# Altium integrated library Linear Technology Power Management Supercapacitor Chargers.IntLib: 96 symbols (part 3 of 8)
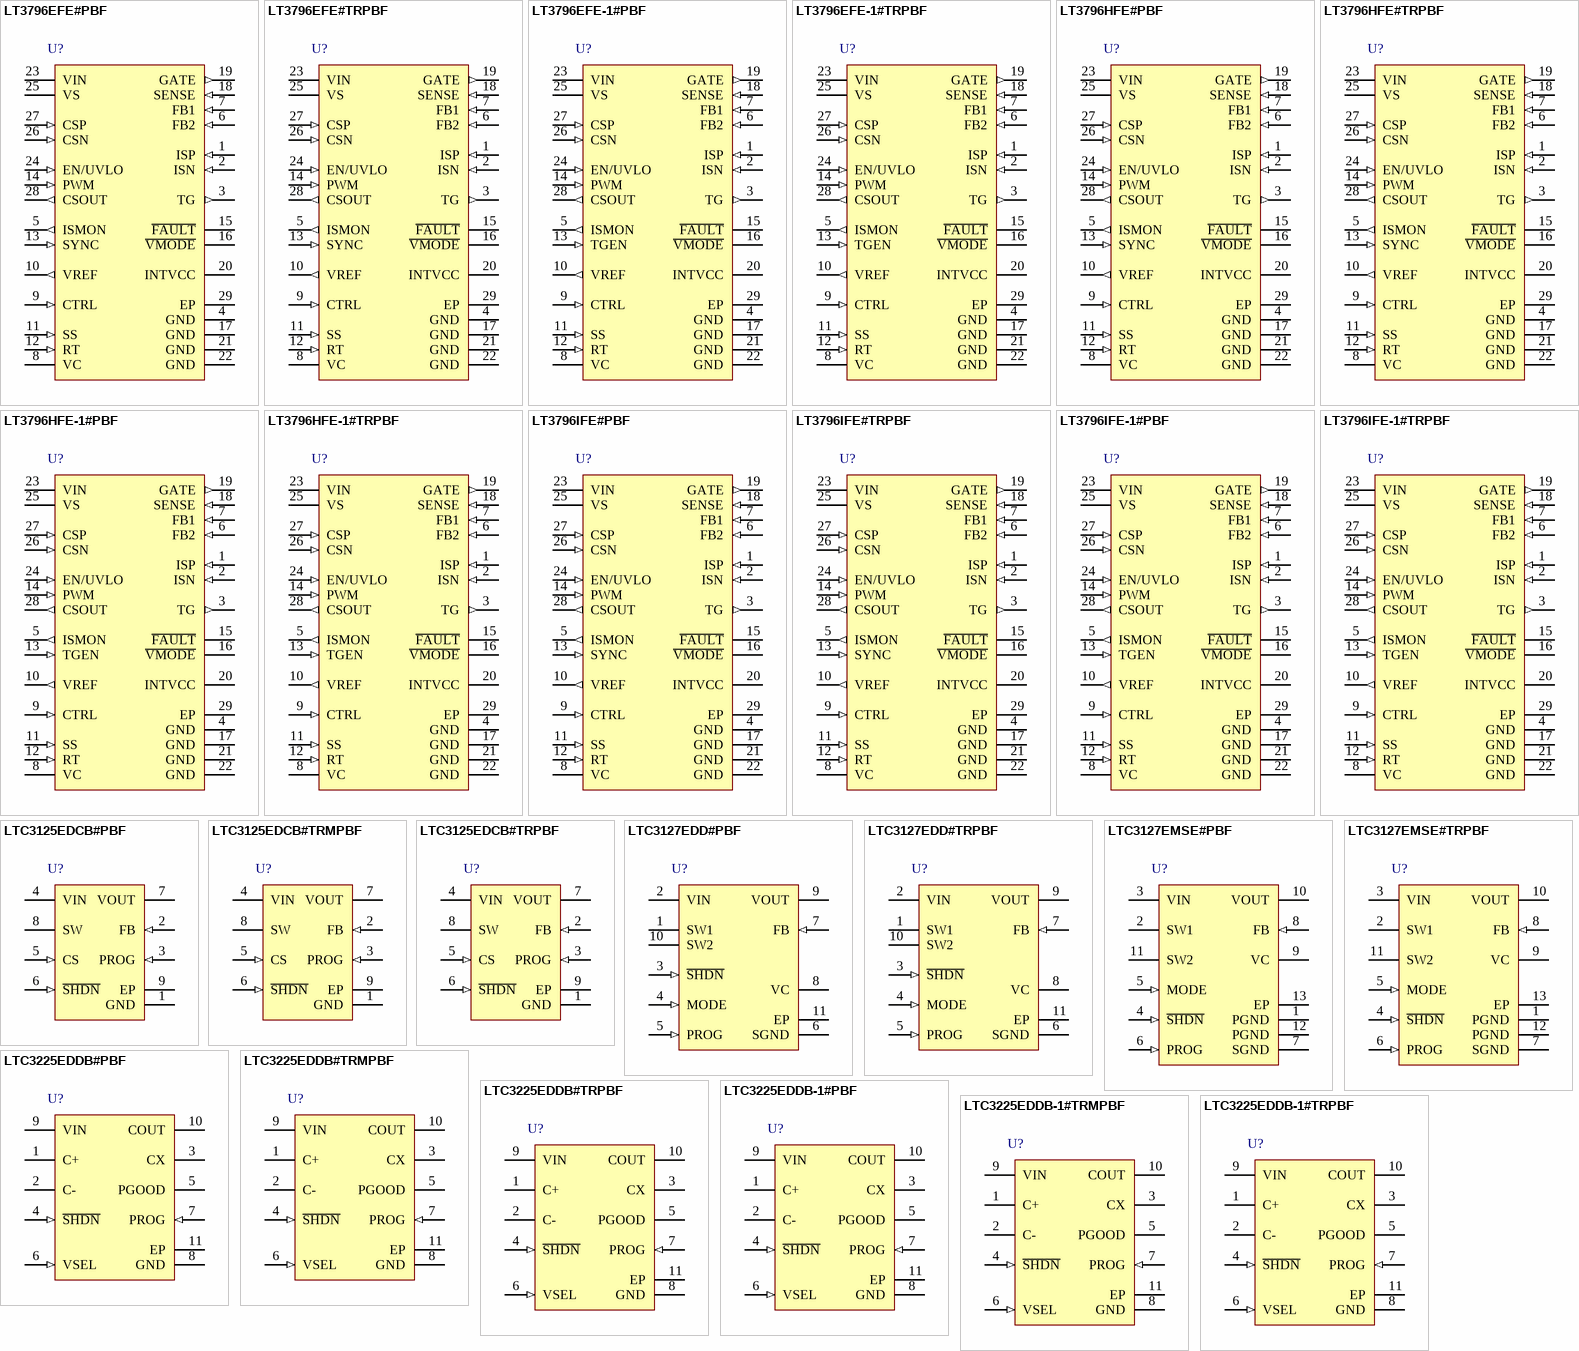
[diagram p5: symbols LT3796EFE#PBF to LTC3225EDDB-1#TRPBF]

## LT3796EFE#PBF
designator U?
Constant-Current and Constant-Voltage Controller with Dual Current Sense, 6 to 100 V Vin, 100 V Vout MAX, 28-pin SOP (FE-28-EPV-EB), -40 to 125 degC, Pb-Free; Manufacturer: Linear Technology; PartNumber: LT3796EFE#PBF; Output Current(A): 10; Topology: Buck, Boost, Buck-Boost, Sepic; DatasheetVersion: Rev. A; PackageVersion: Rev. J, 11/2012; PackageReference: FE-28; PackageDescription: 28-Pin Plastic TSSOP, Body 9.7 x 4.4 mm, Pitch 0.65 mm; Supplier 1: Digi-Key; Supplier Part Number 1: LT3796EFE#PBF-ND; Supplier 2: Farnell; Supplier Part Number 2: 2115922; Supplier 3: Newark; Supplier Part Number 3: 93T2031; RoHS: TRUE; Mounting Technology: Surface Mount; ComponentLink1Description: Manufacturer URL; ComponentLink1URL: http://www.linear.com/; ComponentLink2Description: Datasheet; ComponentLink2URL: http://cds.linear.com/docs/en/datasheet/3796fa.pdf; ComponentLink3Description: Package Specification; ComponentLink3URL: http://cds.linear.com/docs/en/packaging/05081663__J_FE28(EB).pdf
footprint LT-FE-28-EPV-EB_N (SOP, 28-Leads, Body 9.8x4.5mm, Pitch 0.65mm, Thermal Pad 4.75x2.74mm, IPC Medium Density)
footprint LT-FE-28-EPV-EB_L (SOP, 28-Leads, Body 9.8x4.5mm, Pitch 0.65mm, Thermal Pad 4.75x2.74mm, IPC High Density)
footprint LT-FE-28-EPV-EB_M (SOP, 28-Leads, Body 9.8x4.5mm, Pitch 0.65mm, Thermal Pad 4.75x2.74mm, IPC Low Density)
pins: 1 ISP (in) "Connection Point for the Positive Terminal of the Current Feedback Resistor (RLED ). Also serves as positive rail for TG pin driver.", 2 ISN (in) "Connection Point for the Negative Terminal of the Current Feedback Resistor (RLED ).", 3 TG (out) "Top Gate Driver Output. An inverted PWM signal drives series PMOS device between VISP and (VISP - 7 V) if V ISP > 7 V. An internal 7 V clamp protects the PMOS gate by limiting VGS. Leave TG unconnected if not used.", 4 GND (power) "Ground. These pins also serve as current sense input for control loop, sensing negative terminal of current sense resistor in the source of the N-channel MOSFET. Solder the exposed pad directly to ground plane.", 5 ISMON (out) "ISP / ISN Current Report Pin. The LED current sensed by ISP / ISN inputs is reported as VISMON = ILED • RLED • 4. Leave ISMON pin unconnected if not used. When PWM is low, ISMON is driven to ground. Bypass with a 47(See Datasheet)", 6 FB2 (in) "Voltage Loop Feedback 2 Pin. This pin is connected to the internal transconductance amplifier positive input node. The internal transconductance amplifier with output VC regulates FB2 to 1.25 V through the DC/ DC converter. (See Datasheet)", 7 FB1 (in) "Voltage Loop Feedback 1 Pin. FB1 is intended for constant-voltage regulation or for LED protection / open LED detection.", 8 VC "Transconductance Error Amplifier Output Pin. Used to stabilize the control loop with an RC network. This pin is high impedance when PWM is low, a feature that stores the demand current state variable for the next PWM high (See Datasheet)", 9 CTRL (in) "Current Sense Threshold Adjustment Pin.", 10 VREF (out) "Voltage Reference Output Pin. Typically 2.015 V. This pin drives a resistor divider for the CTRL pin, either for analog dimming or for temperature limit / compensation of LED load. It can supply up to 100 uA.", 11 SS (in) "Soft-Start Pin. This pin modulates oscillator frequency and compensation pin voltage (VC ) clamp. The soft-start interval is set with an external capacitor.", 12 RT (in) "Switching Frequency Adjustment Pin. Set the frequency using a resistor to GND (for resistor values, see the Typical Performance curve or Table 2). Do not leave the RT pin open.", 13 SYNC (in) "The SYNC pin is used to syn- chronize the internal oscillator to an external logic level signal. If SYNC is used, the RT resistor should be chosen to program an internal switching frequency 20% slower than the SYNC pulse (See Datasheet)", 14 PWM (in) "PWM Input Signal Pin. A signal low turns off switching, idles the oscillator, disconnects the VC pin from all internal loads, and makes the TG pin high. There is an equivalent 500 k resistor from PWM pin to GND internally. (See Datasheet)", 15 ~{FAULT} (oc) "An open-collector pull-down on F\A\U\L\T\ asserts when any of the following conditions happen: 1. FB1 overvoltage (V FB1 > 1.3 V), 2. INTV CC undervoltage, 3. LED overcurrent (V(ISP-ISN) > 375 mV), or 4. Thermal shutdown. If (See Datasheet)", 16 ~{VMODE} (oc) "An open-collector pull-down on V\M\O\D\E\ asserts if the FB1 input is above 1.19 V (typical), and V(ISP-ISN) is less than 25 mV (typical). To function, the pin requires an external pull-up resistor. V\M\O\D\E\ status is (See Datasheet)", 17 GND (power) "Ground. These pins also serve as current sense input for control loop, sensing negative terminal of current sense resistor in the source of the N-channel MOSFET. Solder the exposed pad directly to ground plane.", 18 SENSE (in) "The current sense input for the control loop. Kelvin connect this pin to the positive terminal of the switch current sense resistor, RSENSE , in the source of the N-channel MOSFET. The negative terminal of the current sense (See Datasheet)", 19 GATE (out) "N-Channel MOSFET Gate Driver Output. Switches between INTVCC and GND. It is driven to GND during shutdown, fault or idle states.", 20 INTVCC (power) "Regulated Supply for Internal Loads, GATE Driver and Top Gate (PMOS) Driver. Supplied from VIN and regulates to 7.7 V (typical). INTVCC must be bypassed with a 4.7 uF capacitor placed close to the pin. Connect INTV CC (See Datasheet)", 21 GND (power) "Ground. These pins also serve as current sense input for control loop, sensing negative terminal of current sense resistor in the source of the N-channel MOSFET. Solder the exposed pad directly to ground plane.", 22 GND (power) "Ground. These pins also serve as current sense input for control loop, sensing negative terminal of current sense resistor in the source of the N-channel MOSFET. Solder the exposed pad directly to ground plane.", 23 VIN (power) "Input Supply Pin. Must be locally bypassed with a 0.22 uF (or larger) capacitor placed close to the IC.", 24 EN/UVLO (in) "Enable and Undervoltage Lockout Pin.", 25 VS (power) "Current Sense Amplifier Power Supply Pin. This pin supply current to the current sense amplifier and can operate from 3 V to 100 V.", 26 CSN (in) "Negative Current Sense Input Terminal. CSN remains functional for voltages up to 100 V.", 27 CSP (in) "Positive Current Sense Input Terminal. The internal sense amplifier sinks current from CSP to regulate it to the same potential as CSN. A resistor (RIN1 ) tied from VIN to CSP sets the output current ICSOUT = VSNS /R IN1 .", 28 CSOUT (out) "Current Sense Amplifier Output. CSOUT pin sources the current that is drawn from CSP. Typically is output to an external resistor to GND.", 29 EP (power) "Ground. These pins also serve as current sense input for control loop, sensing negative terminal of current sense resistor in the source of the N-channel MOSFET. Solder the exposed pad directly to ground plane."

## LT3796EFE#TRPBF
designator U?
Constant-Current and Constant-Voltage Controller with Dual Current Sense, 6 to 100 V Vin, 100 V Vout MAX, 28-pin SOP (FE-28-EPV-EB), -40 to 125 degC, Pb-Free, Tape and Reel; Manufacturer: Linear Technology; PartNumber: LT3796EFE#TRPBF; Output Current(A): 10; Topology: Buck, Boost, Buck-Boost, Sepic; DatasheetVersion: Rev. A; PackageVersion: Rev. J, 11/2012; PackageReference: FE-28; PackageDescription: 28-Pin Plastic TSSOP, Body 9.7 x 4.4 mm, Pitch 0.65 mm; Supplier 1: Digi-Key; Supplier Part Number 1: LT3796EFE#TRPBF-ND; Supplier 2: Newark; Supplier Part Number 2: 93T2032; Packing: Tape and Reel; RoHS: TRUE; Mounting Technology: Surface Mount; ComponentLink1Description: Manufacturer URL; ComponentLink1URL: http://www.linear.com/; ComponentLink2Description: Datasheet; ComponentLink2URL: http://cds.linear.com/docs/en/datasheet/3796fa.pdf; ComponentLink3Description: Package Specification; ComponentLink3URL: http://cds.linear.com/docs/en/packaging/05081663__J_FE28(EB).pdf
footprint LT-FE-28-EPV-EB_N (SOP, 28-Leads, Body 9.8x4.5mm, Pitch 0.65mm, Thermal Pad 4.75x2.74mm, IPC Medium Density)
footprint LT-FE-28-EPV-EB_L (SOP, 28-Leads, Body 9.8x4.5mm, Pitch 0.65mm, Thermal Pad 4.75x2.74mm, IPC High Density)
footprint LT-FE-28-EPV-EB_M (SOP, 28-Leads, Body 9.8x4.5mm, Pitch 0.65mm, Thermal Pad 4.75x2.74mm, IPC Low Density)
pins: 1 ISP (in) "Connection Point for the Positive Terminal of the Current Feedback Resistor (RLED ). Also serves as positive rail for TG pin driver.", 2 ISN (in) "Connection Point for the Negative Terminal of the Current Feedback Resistor (RLED ).", 3 TG (out) "Top Gate Driver Output. An inverted PWM signal drives series PMOS device between VISP and (VISP - 7 V) if V ISP > 7 V. An internal 7 V clamp protects the PMOS gate by limiting VGS. Leave TG unconnected if not used.", 4 GND (power) "Ground. These pins also serve as current sense input for control loop, sensing negative terminal of current sense resistor in the source of the N-channel MOSFET. Solder the exposed pad directly to ground plane.", 5 ISMON (out) "ISP / ISN Current Report Pin. The LED current sensed by ISP / ISN inputs is reported as VISMON = ILED • RLED • 4. Leave ISMON pin unconnected if not used. When PWM is low, ISMON is driven to ground. Bypass with a 47(See Datasheet)", 6 FB2 (in) "Voltage Loop Feedback 2 Pin. This pin is connected to the internal transconductance amplifier positive input node. The internal transconductance amplifier with output VC regulates FB2 to 1.25 V through the DC/ DC converter. (See Datasheet)", 7 FB1 (in) "Voltage Loop Feedback 1 Pin. FB1 is intended for constant-voltage regulation or for LED protection / open LED detection.", 8 VC "Transconductance Error Amplifier Output Pin. Used to stabilize the control loop with an RC network. This pin is high impedance when PWM is low, a feature that stores the demand current state variable for the next PWM high (See Datasheet)", 9 CTRL (in) "Current Sense Threshold Adjustment Pin.", 10 VREF (out) "Voltage Reference Output Pin. Typically 2.015 V. This pin drives a resistor divider for the CTRL pin, either for analog dimming or for temperature limit / compensation of LED load. It can supply up to 100 uA.", 11 SS (in) "Soft-Start Pin. This pin modulates oscillator frequency and compensation pin voltage (VC ) clamp. The soft-start interval is set with an external capacitor.", 12 RT (in) "Switching Frequency Adjustment Pin. Set the frequency using a resistor to GND (for resistor values, see the Typical Performance curve or Table 2). Do not leave the RT pin open.", 13 SYNC (in) "The SYNC pin is used to syn- chronize the internal oscillator to an external logic level signal. If SYNC is used, the RT resistor should be chosen to program an internal switching frequency 20% slower than the SYNC pulse (See Datasheet)", 14 PWM (in) "PWM Input Signal Pin. A signal low turns off switching, idles the oscillator, disconnects the VC pin from all internal loads, and makes the TG pin high. There is an equivalent 500 k resistor from PWM pin to GND internally. (See Datasheet)", 15 ~{FAULT} (oc) "An open-collector pull-down on F\A\U\L\T\ asserts when any of the following conditions happen: 1. FB1 overvoltage (V FB1 > 1.3 V), 2. INTV CC undervoltage, 3. LED overcurrent (V(ISP-ISN) > 375 mV), or 4. Thermal shutdown. If (See Datasheet)", 16 ~{VMODE} (oc) "An open-collector pull-down on V\M\O\D\E\ asserts if the FB1 input is above 1.19 V (typical), and V(ISP-ISN) is less than 25 mV (typical). To function, the pin requires an external pull-up resistor. V\M\O\D\E\ status is (See Datasheet)", 17 GND (power) "Ground. These pins also serve as current sense input for control loop, sensing negative terminal of current sense resistor in the source of the N-channel MOSFET. Solder the exposed pad directly to ground plane.", 18 SENSE (in) "The current sense input for the control loop. Kelvin connect this pin to the positive terminal of the switch current sense resistor, RSENSE , in the source of the N-channel MOSFET. The negative terminal of the current sense (See Datasheet)", 19 GATE (out) "N-Channel MOSFET Gate Driver Output. Switches between INTVCC and GND. It is driven to GND during shutdown, fault or idle states.", 20 INTVCC (power) "Regulated Supply for Internal Loads, GATE Driver and Top Gate (PMOS) Driver. Supplied from VIN and regulates to 7.7 V (typical). INTVCC must be bypassed with a 4.7 uF capacitor placed close to the pin. Connect INTV CC (See Datasheet)", 21 GND (power) "Ground. These pins also serve as current sense input for control loop, sensing negative terminal of current sense resistor in the source of the N-channel MOSFET. Solder the exposed pad directly to ground plane.", 22 GND (power) "Ground. These pins also serve as current sense input for control loop, sensing negative terminal of current sense resistor in the source of the N-channel MOSFET. Solder the exposed pad directly to ground plane.", 23 VIN (power) "Input Supply Pin. Must be locally bypassed with a 0.22 uF (or larger) capacitor placed close to the IC.", 24 EN/UVLO (in) "Enable and Undervoltage Lockout Pin.", 25 VS (power) "Current Sense Amplifier Power Supply Pin. This pin supply current to the current sense amplifier and can operate from 3 V to 100 V.", 26 CSN (in) "Negative Current Sense Input Terminal. CSN remains functional for voltages up to 100 V.", 27 CSP (in) "Positive Current Sense Input Terminal. The internal sense amplifier sinks current from CSP to regulate it to the same potential as CSN. A resistor (RIN1 ) tied from VIN to CSP sets the output current ICSOUT = VSNS /R IN1 .", 28 CSOUT (out) "Current Sense Amplifier Output. CSOUT pin sources the current that is drawn from CSP. Typically is output to an external resistor to GND.", 29 EP (power) "Ground. These pins also serve as current sense input for control loop, sensing negative terminal of current sense resistor in the source of the N-channel MOSFET. Solder the exposed pad directly to ground plane."

## LT3796EFE-1#PBF
designator U?
Constant-Current and Constant-Voltage Controller with Dual Current Sense, 6 to 100 V Vin, 100 V Vout MAX, 28-pin SOP (FE-28-EPV-EB), -40 to 125 degC, Pb-Free; Manufacturer: Linear Technology; PartNumber: LT3796EFE-1#PBF; Output Current(A): 10; Topology: Buck, Boost, Buck-Boost, Sepic; DatasheetVersion: Rev. A; PackageVersion: Rev. J, 11/2012; PackageReference: FE-28; PackageDescription: 28-Pin Plastic TSSOP, Body 9.7 x 4.4 mm, Pitch 0.65 mm; Supplier 1: Digi-Key; Supplier Part Number 1: LT3796EFE-1#PBF-ND; Supplier 2: Newark; Supplier Part Number 2: 48W6517; RoHS: TRUE; Mounting Technology: Surface Mount; ComponentLink1Description: Manufacturer URL; ComponentLink1URL: http://www.linear.com/; ComponentLink2Description: Datasheet; ComponentLink2URL: http://cds.linear.com/docs/en/datasheet/3796fa.pdf; ComponentLink3Description: Package Specification; ComponentLink3URL: http://cds.linear.com/docs/en/packaging/05081663__J_FE28(EB).pdf
footprint LT-FE-28-EPV-EB_N (SOP, 28-Leads, Body 9.8x4.5mm, Pitch 0.65mm, Thermal Pad 4.75x2.74mm, IPC Medium Density)
footprint LT-FE-28-EPV-EB_L (SOP, 28-Leads, Body 9.8x4.5mm, Pitch 0.65mm, Thermal Pad 4.75x2.74mm, IPC High Density)
footprint LT-FE-28-EPV-EB_M (SOP, 28-Leads, Body 9.8x4.5mm, Pitch 0.65mm, Thermal Pad 4.75x2.74mm, IPC Low Density)
pins: 1 ISP (in) "Connection Point for the Positive Terminal of the Current Feedback Resistor (RLED ). Also serves as positive rail for TG pin driver.", 2 ISN (in) "Connection Point for the Negative Terminal of the Current Feedback Resistor (RLED ).", 3 TG (out) "Top Gate Driver Output. An inverted PWM signal drives series PMOS device between VISP and (VISP - 7 V) if V ISP > 7 V. An internal 7 V clamp protects the PMOS gate by limiting VGS. Leave TG unconnected if not used.", 4 GND (power) "Ground. These pins also serve as current sense input for control loop, sensing negative terminal of current sense resistor in the source of the N-channel MOSFET. Solder the exposed pad directly to ground plane.", 5 ISMON (out) "ISP / ISN Current Report Pin. The LED current sensed by ISP / ISN inputs is reported as VISMON = ILED ?RLED ?4. Leave ISMON pin unconnected if not used. When PWM is low, ISMON is driven to ground. Bypass with a 47(See Datasheet)", 6 FB2 (in) "Voltage Loop Feedback 2 Pin. This pin is connected to the internal transconductance amplifier positive input node. The internal transconductance amplifier with output VC regulates FB2 to 1.25 V through the DC/ DC converter. (See Datasheet)", 7 FB1 (in) "Voltage Loop Feedback 1 Pin. FB1 is intended for constant-voltage regulation or for LED protection / open LED detection.", 8 VC "Transconductance Error Amplifier Output Pin. Used to stabilize the control loop with an RC network. This pin is high impedance when PWM is low, a feature that stores the demand current state variable for the next PWM high (See Datasheet)", 9 CTRL (in) "Current Sense Threshold Adjustment Pin.", 10 VREF (out) "Voltage Reference Output Pin. Typically 2.015 V. This pin drives a resistor divider for the CTRL pin, either for analog dimming or for temperature limit / compensation of LED load. It can supply up to 100 uA.", 11 SS (in) "Soft-Start Pin. This pin modulates oscillator frequency and compensation pin voltage (VC ) clamp. The soft-start interval is set with an external capacitor.", 12 RT (in) "Switching Frequency Adjustment Pin. Set the frequency using a resistor to GND (for resistor values, see the Typical Performance curve or Table 2). Do not leave the RT pin open.", 13 TGEN (in) "Top Gate Driver Enable Pin. TGEN signal low causes the TG pin to transition high and turn off a PMOS switch, independent of the PWM input. Unlike PWM, TGEN low does not put the switching regulator in an idle state. TGEN can (See Datasheet)", 14 PWM (in) "PWM Input Signal Pin. A signal low turns off switching, idles the oscillator, disconnects the VC pin from all internal loads, and makes the TG pin high. There is an equivalent 500 k resistor from PWM pin to GND internally. (See Datasheet)", 15 ~{FAULT} (oc) "An open-collector pull-down on F\A\U\L\T\ asserts when any of the following conditions happen: 1. FB1 overvoltage (V FB1 > 1.3 V), 2. INTV CC undervoltage, 3. LED overcurrent (V(ISP-ISN) > 375 mV), or 4. Thermal shutdown. If (See Datasheet)", 16 ~{VMODE} (oc) "An open-collector pull-down on V\M\O\D\E\ asserts if the FB1 input is above 1.19 V (typical), and V(ISP-ISN) is less than 25 mV (typical). To function, the pin requires an external pull-up resistor. V\M\O\D\E\ status is (See Datasheet)", 17 GND (power) "Ground. These pins also serve as current sense input for control loop, sensing negative terminal of current sense resistor in the source of the N-channel MOSFET. Solder the exposed pad directly to ground plane.", 18 SENSE (in) "The current sense input for the control loop. Kelvin connect this pin to the positive terminal of the switch current sense resistor, RSENSE , in the source of the N-channel MOSFET. The negative terminal of the current sense (See Datasheet)", 19 GATE (out) "N-Channel MOSFET Gate Driver Output. Switches between INTVCC and GND. It is driven to GND during shutdown, fault or idle states.", 20 INTVCC (power) "Regulated Supply for Internal Loads, GATE Driver and Top Gate (PMOS) Driver. Supplied from VIN and regulates to 7.7 V (typical). INTVCC must be bypassed with a 4.7 uF capacitor placed close to the pin. Connect INTV CC (See Datasheet)", 21 GND (power) "Ground. These pins also serve as current sense input for control loop, sensing negative terminal of current sense resistor in the source of the N-channel MOSFET. Solder the exposed pad directly to ground plane.", 22 GND (power) "Ground. These pins also serve as current sense input for control loop, sensing negative terminal of current sense resistor in the source of the N-channel MOSFET. Solder the exposed pad directly to ground plane.", 23 VIN (power) "Input Supply Pin. Must be locally bypassed with a 0.22 uF (or larger) capacitor placed close to the IC.", 24 EN/UVLO (in) "Enable and Undervoltage Lockout Pin.", 25 VS (power) "Current Sense Amplifier Power Supply Pin. This pin supply current to the current sense amplifier and can operate from 3 V to 100 V.", 26 CSN (in) "Negative Current Sense Input Terminal. CSN remains functional for voltages up to 100 V.", 27 CSP (in) "Positive Current Sense Input Terminal. The internal sense amplifier sinks current from CSP to regulate it to the same potential as CSN. A resistor (RIN1 ) tied from VIN to CSP sets the output current ICSOUT = VSNS /R IN1 .", 28 CSOUT (out) "Current Sense Amplifier Output. CSOUT pin sources the current that is drawn from CSP. Typically is output to an external resistor to GND.", 29 EP (power) "Ground. These pins also serve as current sense input for control loop, sensing negative terminal of current sense resistor in the source of the N-channel MOSFET. Solder the exposed pad directly to ground plane."

## LT3796EFE-1#TRPBF
designator U?
Constant-Current and Constant-Voltage Controller with Dual Current Sense, 6 to 100 V Vin, 100 V Vout MAX, 28-pin SOP (FE-28-EPV-EB), -40 to 125 degC, Pb-Free, Tape and Reel; Manufacturer: Linear Technology; PartNumber: LT3796EFE-1#TRPBF; Output Current(A): 10; Topology: Buck, Boost, Buck-Boost, Sepic; DatasheetVersion: Rev. A; PackageVersion: Rev. J, 11/2012; PackageReference: FE-28; PackageDescription: 28-Pin Plastic TSSOP, Body 9.7 x 4.4 mm, Pitch 0.65 mm; Supplier 1: Digi-Key; Supplier Part Number 1: LT3796EFE-1#TRPBF-ND; Supplier 2: Newark; Supplier Part Number 2: 48W6518; Packing: Tape and Reel; RoHS: TRUE; Mounting Technology: Surface Mount; ComponentLink1Description: Manufacturer URL; ComponentLink1URL: http://www.linear.com/; ComponentLink2Description: Datasheet; ComponentLink2URL: http://cds.linear.com/docs/en/datasheet/3796fa.pdf; ComponentLink3Description: Package Specification; ComponentLink3URL: http://cds.linear.com/docs/en/packaging/05081663__J_FE28(EB).pdf
footprint LT-FE-28-EPV-EB_N (SOP, 28-Leads, Body 9.8x4.5mm, Pitch 0.65mm, Thermal Pad 4.75x2.74mm, IPC Medium Density)
footprint LT-FE-28-EPV-EB_L (SOP, 28-Leads, Body 9.8x4.5mm, Pitch 0.65mm, Thermal Pad 4.75x2.74mm, IPC High Density)
footprint LT-FE-28-EPV-EB_M (SOP, 28-Leads, Body 9.8x4.5mm, Pitch 0.65mm, Thermal Pad 4.75x2.74mm, IPC Low Density)
pins: 1 ISP (in) "Connection Point for the Positive Terminal of the Current Feedback Resistor (RLED ). Also serves as positive rail for TG pin driver.", 2 ISN (in) "Connection Point for the Negative Terminal of the Current Feedback Resistor (RLED ).", 3 TG (out) "Top Gate Driver Output. An inverted PWM signal drives series PMOS device between VISP and (VISP - 7 V) if V ISP > 7 V. An internal 7 V clamp protects the PMOS gate by limiting VGS. Leave TG unconnected if not used.", 4 GND (power) "Ground. These pins also serve as current sense input for control loop, sensing negative terminal of current sense resistor in the source of the N-channel MOSFET. Solder the exposed pad directly to ground plane.", 5 ISMON (out) "ISP / ISN Current Report Pin. The LED current sensed by ISP / ISN inputs is reported as VISMON = ILED ?RLED ?4. Leave ISMON pin unconnected if not used. When PWM is low, ISMON is driven to ground. Bypass with a 47(See Datasheet)", 6 FB2 (in) "Voltage Loop Feedback 2 Pin. This pin is connected to the internal transconductance amplifier positive input node. The internal transconductance amplifier with output VC regulates FB2 to 1.25 V through the DC/ DC converter. (See Datasheet)", 7 FB1 (in) "Voltage Loop Feedback 1 Pin. FB1 is intended for constant-voltage regulation or for LED protection / open LED detection.", 8 VC "Transconductance Error Amplifier Output Pin. Used to stabilize the control loop with an RC network. This pin is high impedance when PWM is low, a feature that stores the demand current state variable for the next PWM high (See Datasheet)", 9 CTRL (in) "Current Sense Threshold Adjustment Pin.", 10 VREF (out) "Voltage Reference Output Pin. Typically 2.015 V. This pin drives a resistor divider for the CTRL pin, either for analog dimming or for temperature limit / compensation of LED load. It can supply up to 100 uA.", 11 SS (in) "Soft-Start Pin. This pin modulates oscillator frequency and compensation pin voltage (VC ) clamp. The soft-start interval is set with an external capacitor.", 12 RT (in) "Switching Frequency Adjustment Pin. Set the frequency using a resistor to GND (for resistor values, see the Typical Performance curve or Table 2). Do not leave the RT pin open.", 13 TGEN (in) "Top Gate Driver Enable Pin. TGEN signal low causes the TG pin to transition high and turn off a PMOS switch, independent of the PWM input. Unlike PWM, TGEN low does not put the switching regulator in an idle state. TGEN can (See Datasheet)", 14 PWM (in) "PWM Input Signal Pin. A signal low turns off switching, idles the oscillator, disconnects the VC pin from all internal loads, and makes the TG pin high. There is an equivalent 500 k resistor from PWM pin to GND internally. (See Datasheet)", 15 ~{FAULT} (oc) "An open-collector pull-down on F\A\U\L\T\ asserts when any of the following conditions happen: 1. FB1 overvoltage (V FB1 > 1.3 V), 2. INTV CC undervoltage, 3. LED overcurrent (V(ISP-ISN) > 375 mV), or 4. Thermal shutdown. If (See Datasheet)", 16 ~{VMODE} (oc) "An open-collector pull-down on V\M\O\D\E\ asserts if the FB1 input is above 1.19 V (typical), and V(ISP-ISN) is less than 25 mV (typical). To function, the pin requires an external pull-up resistor. V\M\O\D\E\ status is (See Datasheet)", 17 GND (power) "Ground. These pins also serve as current sense input for control loop, sensing negative terminal of current sense resistor in the source of the N-channel MOSFET. Solder the exposed pad directly to ground plane.", 18 SENSE (in) "The current sense input for the control loop. Kelvin connect this pin to the positive terminal of the switch current sense resistor, RSENSE , in the source of the N-channel MOSFET. The negative terminal of the current sense (See Datasheet)", 19 GATE (out) "N-Channel MOSFET Gate Driver Output. Switches between INTVCC and GND. It is driven to GND during shutdown, fault or idle states.", 20 INTVCC (power) "Regulated Supply for Internal Loads, GATE Driver and Top Gate (PMOS) Driver. Supplied from VIN and regulates to 7.7 V (typical). INTVCC must be bypassed with a 4.7 uF capacitor placed close to the pin. Connect INTV CC (See Datasheet)", 21 GND (power) "Ground. These pins also serve as current sense input for control loop, sensing negative terminal of current sense resistor in the source of the N-channel MOSFET. Solder the exposed pad directly to ground plane.", 22 GND (power) "Ground. These pins also serve as current sense input for control loop, sensing negative terminal of current sense resistor in the source of the N-channel MOSFET. Solder the exposed pad directly to ground plane.", 23 VIN (power) "Input Supply Pin. Must be locally bypassed with a 0.22 uF (or larger) capacitor placed close to the IC.", 24 EN/UVLO (in) "Enable and Undervoltage Lockout Pin.", 25 VS (power) "Current Sense Amplifier Power Supply Pin. This pin supply current to the current sense amplifier and can operate from 3 V to 100 V.", 26 CSN (in) "Negative Current Sense Input Terminal. CSN remains functional for voltages up to 100 V.", 27 CSP (in) "Positive Current Sense Input Terminal. The internal sense amplifier sinks current from CSP to regulate it to the same potential as CSN. A resistor (RIN1 ) tied from VIN to CSP sets the output current ICSOUT = VSNS /R IN1 .", 28 CSOUT (out) "Current Sense Amplifier Output. CSOUT pin sources the current that is drawn from CSP. Typically is output to an external resistor to GND.", 29 EP (power) "Ground. These pins also serve as current sense input for control loop, sensing negative terminal of current sense resistor in the source of the N-channel MOSFET. Solder the exposed pad directly to ground plane."

## LT3796HFE#PBF
designator U?
Constant-Current and Constant-Voltage Controller with Dual Current Sense, 6 to 100 V Vin, 100 V Vout MAX, 28-pin SOP (FE-28-EPV-EB), -40 to 150 degC, Pb-Free; Manufacturer: Linear Technology; PartNumber: LT3796HFE#PBF; Output Current(A): 10; Topology: Buck, Boost, Buck-Boost, Sepic; DatasheetVersion: Rev. A; PackageVersion: Rev. J, 11/2012; PackageReference: FE-28; PackageDescription: 28-Pin Plastic TSSOP, Body 9.7 x 4.4 mm, Pitch 0.65 mm; Supplier 1: Digi-Key; Supplier Part Number 1: LT3796HFE#PBF-ND; Supplier 2: Newark; Supplier Part Number 2: 93T2034; RoHS: TRUE; Mounting Technology: Surface Mount; ComponentLink1Description: Manufacturer URL; ComponentLink1URL: http://www.linear.com/; ComponentLink2Description: Datasheet; ComponentLink2URL: http://cds.linear.com/docs/en/datasheet/3796fa.pdf; ComponentLink3Description: Package Specification; ComponentLink3URL: http://cds.linear.com/docs/en/packaging/05081663__J_FE28(EB).pdf
footprint LT-FE-28-EPV-EB_N (SOP, 28-Leads, Body 9.8x4.5mm, Pitch 0.65mm, Thermal Pad 4.75x2.74mm, IPC Medium Density)
footprint LT-FE-28-EPV-EB_L (SOP, 28-Leads, Body 9.8x4.5mm, Pitch 0.65mm, Thermal Pad 4.75x2.74mm, IPC High Density)
footprint LT-FE-28-EPV-EB_M (SOP, 28-Leads, Body 9.8x4.5mm, Pitch 0.65mm, Thermal Pad 4.75x2.74mm, IPC Low Density)
pins: 1 ISP (in) "Connection Point for the Positive Terminal of the Current Feedback Resistor (RLED ). Also serves as positive rail for TG pin driver.", 2 ISN (in) "Connection Point for the Negative Terminal of the Current Feedback Resistor (RLED ).", 3 TG (out) "Top Gate Driver Output. An inverted PWM signal drives series PMOS device between VISP and (VISP - 7 V) if V ISP > 7 V. An internal 7 V clamp protects the PMOS gate by limiting VGS. Leave TG unconnected if not used.", 4 GND (power) "Ground. These pins also serve as current sense input for control loop, sensing negative terminal of current sense resistor in the source of the N-channel MOSFET. Solder the exposed pad directly to ground plane.", 5 ISMON (out) "ISP / ISN Current Report Pin. The LED current sensed by ISP / ISN inputs is reported as VISMON = ILED • RLED • 4. Leave ISMON pin unconnected if not used. When PWM is low, ISMON is driven to ground. Bypass with a 47(See Datasheet)", 6 FB2 (in) "Voltage Loop Feedback 2 Pin. This pin is connected to the internal transconductance amplifier positive input node. The internal transconductance amplifier with output VC regulates FB2 to 1.25 V through the DC/ DC converter. (See Datasheet)", 7 FB1 (in) "Voltage Loop Feedback 1 Pin. FB1 is intended for constant-voltage regulation or for LED protection / open LED detection.", 8 VC "Transconductance Error Amplifier Output Pin. Used to stabilize the control loop with an RC network. This pin is high impedance when PWM is low, a feature that stores the demand current state variable for the next PWM high (See Datasheet)", 9 CTRL (in) "Current Sense Threshold Adjustment Pin.", 10 VREF (out) "Voltage Reference Output Pin. Typically 2.015 V. This pin drives a resistor divider for the CTRL pin, either for analog dimming or for temperature limit / compensation of LED load. It can supply up to 100 uA.", 11 SS (in) "Soft-Start Pin. This pin modulates oscillator frequency and compensation pin voltage (VC ) clamp. The soft-start interval is set with an external capacitor.", 12 RT (in) "Switching Frequency Adjustment Pin. Set the frequency using a resistor to GND (for resistor values, see the Typical Performance curve or Table 2). Do not leave the RT pin open.", 13 SYNC (in) "The SYNC pin is used to syn- chronize the internal oscillator to an external logic level signal. If SYNC is used, the RT resistor should be chosen to program an internal switching frequency 20% slower than the SYNC pulse (See Datasheet)", 14 PWM (in) "PWM Input Signal Pin. A signal low turns off switching, idles the oscillator, disconnects the VC pin from all internal loads, and makes the TG pin high. There is an equivalent 500 k resistor from PWM pin to GND internally. (See Datasheet)", 15 ~{FAULT} (oc) "An open-collector pull-down on F\A\U\L\T\ asserts when any of the following conditions happen: 1. FB1 overvoltage (V FB1 > 1.3 V), 2. INTV CC undervoltage, 3. LED overcurrent (V(ISP-ISN) > 375 mV), or 4. Thermal shutdown. If (See Datasheet)", 16 ~{VMODE} (oc) "An open-collector pull-down on V\M\O\D\E\ asserts if the FB1 input is above 1.19 V (typical), and V(ISP-ISN) is less than 25 mV (typical). To function, the pin requires an external pull-up resistor. V\M\O\D\E\ status is (See Datasheet)", 17 GND (power) "Ground. These pins also serve as current sense input for control loop, sensing negative terminal of current sense resistor in the source of the N-channel MOSFET. Solder the exposed pad directly to ground plane.", 18 SENSE (in) "The current sense input for the control loop. Kelvin connect this pin to the positive terminal of the switch current sense resistor, RSENSE , in the source of the N-channel MOSFET. The negative terminal of the current sense (See Datasheet)", 19 GATE (out) "N-Channel MOSFET Gate Driver Output. Switches between INTVCC and GND. It is driven to GND during shutdown, fault or idle states.", 20 INTVCC (power) "Regulated Supply for Internal Loads, GATE Driver and Top Gate (PMOS) Driver. Supplied from VIN and regulates to 7.7 V (typical). INTVCC must be bypassed with a 4.7 uF capacitor placed close to the pin. Connect INTV CC (See Datasheet)", 21 GND (power) "Ground. These pins also serve as current sense input for control loop, sensing negative terminal of current sense resistor in the source of the N-channel MOSFET. Solder the exposed pad directly to ground plane.", 22 GND (power) "Ground. These pins also serve as current sense input for control loop, sensing negative terminal of current sense resistor in the source of the N-channel MOSFET. Solder the exposed pad directly to ground plane.", 23 VIN (power) "Input Supply Pin. Must be locally bypassed with a 0.22 uF (or larger) capacitor placed close to the IC.", 24 EN/UVLO (in) "Enable and Undervoltage Lockout Pin.", 25 VS (power) "Current Sense Amplifier Power Supply Pin. This pin supply current to the current sense amplifier and can operate from 3 V to 100 V.", 26 CSN (in) "Negative Current Sense Input Terminal. CSN remains functional for voltages up to 100 V.", 27 CSP (in) "Positive Current Sense Input Terminal. The internal sense amplifier sinks current from CSP to regulate it to the same potential as CSN. A resistor (RIN1 ) tied from VIN to CSP sets the output current ICSOUT = VSNS /R IN1 .", 28 CSOUT (out) "Current Sense Amplifier Output. CSOUT pin sources the current that is drawn from CSP. Typically is output to an external resistor to GND.", 29 EP (power) "Ground. These pins also serve as current sense input for control loop, sensing negative terminal of current sense resistor in the source of the N-channel MOSFET. Solder the exposed pad directly to ground plane."

## LT3796HFE#TRPBF
designator U?
Constant-Current and Constant-Voltage Controller with Dual Current Sense, 6 to 100 V Vin, 100 V Vout MAX, 28-pin SOP (FE-28-EPV-EB), -40 to 150 degC, Pb-Free, Tape and Reel; Manufacturer: Linear Technology; PartNumber: LT3796HFE#TRPBF; Output Current(A): 10; Topology: Buck, Boost, Buck-Boost, Sepic; DatasheetVersion: Rev. A; PackageVersion: Rev. J, 11/2012; PackageReference: FE-28; PackageDescription: 28-Pin Plastic TSSOP, Body 9.7 x 4.4 mm, Pitch 0.65 mm; Supplier 1: Digi-Key; Supplier Part Number 1: LT3796HFE#TRPBF-ND; Supplier 2: Newark; Supplier Part Number 2: 93T2035; Supplier 3: Newark; Supplier Part Number 3: 93T2036; Packing: Tape and Reel; RoHS: TRUE; Mounting Technology: Surface Mount; ComponentLink1Description: Manufacturer URL; ComponentLink1URL: http://www.linear.com/; ComponentLink2Description: Datasheet; ComponentLink2URL: http://cds.linear.com/docs/en/datasheet/3796fa.pdf; ComponentLink3Description: Package Specification; ComponentLink3URL: http://cds.linear.com/docs/en/packaging/05081663__J_FE28(EB).pdf
footprint LT-FE-28-EPV-EB_N (SOP, 28-Leads, Body 9.8x4.5mm, Pitch 0.65mm, Thermal Pad 4.75x2.74mm, IPC Medium Density)
footprint LT-FE-28-EPV-EB_L (SOP, 28-Leads, Body 9.8x4.5mm, Pitch 0.65mm, Thermal Pad 4.75x2.74mm, IPC High Density)
footprint LT-FE-28-EPV-EB_M (SOP, 28-Leads, Body 9.8x4.5mm, Pitch 0.65mm, Thermal Pad 4.75x2.74mm, IPC Low Density)
pins: 1 ISP (in) "Connection Point for the Positive Terminal of the Current Feedback Resistor (RLED ). Also serves as positive rail for TG pin driver.", 2 ISN (in) "Connection Point for the Negative Terminal of the Current Feedback Resistor (RLED ).", 3 TG (out) "Top Gate Driver Output. An inverted PWM signal drives series PMOS device between VISP and (VISP - 7 V) if V ISP > 7 V. An internal 7 V clamp protects the PMOS gate by limiting VGS. Leave TG unconnected if not used.", 4 GND (power) "Ground. These pins also serve as current sense input for control loop, sensing negative terminal of current sense resistor in the source of the N-channel MOSFET. Solder the exposed pad directly to ground plane.", 5 ISMON (out) "ISP / ISN Current Report Pin. The LED current sensed by ISP / ISN inputs is reported as VISMON = ILED • RLED • 4. Leave ISMON pin unconnected if not used. When PWM is low, ISMON is driven to ground. Bypass with a 47(See Datasheet)", 6 FB2 (in) "Voltage Loop Feedback 2 Pin. This pin is connected to the internal transconductance amplifier positive input node. The internal transconductance amplifier with output VC regulates FB2 to 1.25 V through the DC/ DC converter. (See Datasheet)", 7 FB1 (in) "Voltage Loop Feedback 1 Pin. FB1 is intended for constant-voltage regulation or for LED protection / open LED detection.", 8 VC "Transconductance Error Amplifier Output Pin. Used to stabilize the control loop with an RC network. This pin is high impedance when PWM is low, a feature that stores the demand current state variable for the next PWM high (See Datasheet)", 9 CTRL (in) "Current Sense Threshold Adjustment Pin.", 10 VREF (out) "Voltage Reference Output Pin. Typically 2.015 V. This pin drives a resistor divider for the CTRL pin, either for analog dimming or for temperature limit / compensation of LED load. It can supply up to 100 uA.", 11 SS (in) "Soft-Start Pin. This pin modulates oscillator frequency and compensation pin voltage (VC ) clamp. The soft-start interval is set with an external capacitor.", 12 RT (in) "Switching Frequency Adjustment Pin. Set the frequency using a resistor to GND (for resistor values, see the Typical Performance curve or Table 2). Do not leave the RT pin open.", 13 SYNC (in) "The SYNC pin is used to syn- chronize the internal oscillator to an external logic level signal. If SYNC is used, the RT resistor should be chosen to program an internal switching frequency 20% slower than the SYNC pulse (See Datasheet)", 14 PWM (in) "PWM Input Signal Pin. A signal low turns off switching, idles the oscillator, disconnects the VC pin from all internal loads, and makes the TG pin high. There is an equivalent 500 k resistor from PWM pin to GND internally. (See Datasheet)", 15 ~{FAULT} (oc) "An open-collector pull-down on F\A\U\L\T\ asserts when any of the following conditions happen: 1. FB1 overvoltage (V FB1 > 1.3 V), 2. INTV CC undervoltage, 3. LED overcurrent (V(ISP-ISN) > 375 mV), or 4. Thermal shutdown. If (See Datasheet)", 16 ~{VMODE} (oc) "An open-collector pull-down on V\M\O\D\E\ asserts if the FB1 input is above 1.19 V (typical), and V(ISP-ISN) is less than 25 mV (typical). To function, the pin requires an external pull-up resistor. V\M\O\D\E\ status is (See Datasheet)", 17 GND (power) "Ground. These pins also serve as current sense input for control loop, sensing negative terminal of current sense resistor in the source of the N-channel MOSFET. Solder the exposed pad directly to ground plane.", 18 SENSE (in) "The current sense input for the control loop. Kelvin connect this pin to the positive terminal of the switch current sense resistor, RSENSE , in the source of the N-channel MOSFET. The negative terminal of the current sense (See Datasheet)", 19 GATE (out) "N-Channel MOSFET Gate Driver Output. Switches between INTVCC and GND. It is driven to GND during shutdown, fault or idle states.", 20 INTVCC (power) "Regulated Supply for Internal Loads, GATE Driver and Top Gate (PMOS) Driver. Supplied from VIN and regulates to 7.7 V (typical). INTVCC must be bypassed with a 4.7 uF capacitor placed close to the pin. Connect INTV CC (See Datasheet)", 21 GND (power) "Ground. These pins also serve as current sense input for control loop, sensing negative terminal of current sense resistor in the source of the N-channel MOSFET. Solder the exposed pad directly to ground plane.", 22 GND (power) "Ground. These pins also serve as current sense input for control loop, sensing negative terminal of current sense resistor in the source of the N-channel MOSFET. Solder the exposed pad directly to ground plane.", 23 VIN (power) "Input Supply Pin. Must be locally bypassed with a 0.22 uF (or larger) capacitor placed close to the IC.", 24 EN/UVLO (in) "Enable and Undervoltage Lockout Pin.", 25 VS (power) "Current Sense Amplifier Power Supply Pin. This pin supply current to the current sense amplifier and can operate from 3 V to 100 V.", 26 CSN (in) "Negative Current Sense Input Terminal. CSN remains functional for voltages up to 100 V.", 27 CSP (in) "Positive Current Sense Input Terminal. The internal sense amplifier sinks current from CSP to regulate it to the same potential as CSN. A resistor (RIN1 ) tied from VIN to CSP sets the output current ICSOUT = VSNS /R IN1 .", 28 CSOUT (out) "Current Sense Amplifier Output. CSOUT pin sources the current that is drawn from CSP. Typically is output to an external resistor to GND.", 29 EP (power) "Ground. These pins also serve as current sense input for control loop, sensing negative terminal of current sense resistor in the source of the N-channel MOSFET. Solder the exposed pad directly to ground plane."

## LT3796HFE-1#PBF
designator U?
Constant-Current and Constant-Voltage Controller with Dual Current Sense, 6 to 100 V Vin, 100 V Vout MAX, 28-pin SOP (FE-28-EPV-EB), -40 to 150 degC, Pb-Free; Manufacturer: Linear Technology; PartNumber: LT3796HFE-1#PBF; Output Current(A): 10; Topology: Buck, Boost, Buck-Boost, Sepic; DatasheetVersion: Rev. A; PackageVersion: Rev. J, 11/2012; PackageReference: FE-28; PackageDescription: 28-Pin Plastic TSSOP, Body 9.7 x 4.4 mm, Pitch 0.65 mm; Supplier 1: Digi-Key; Supplier Part Number 1: LT3796HFE-1#PBF-ND; Supplier 2: Newark; Supplier Part Number 2: 48W6519; RoHS: TRUE; Mounting Technology: Surface Mount; ComponentLink1Description: Manufacturer URL; ComponentLink1URL: http://www.linear.com/; ComponentLink2Description: Datasheet; ComponentLink2URL: http://cds.linear.com/docs/en/datasheet/3796fa.pdf; ComponentLink3Description: Package Specification; ComponentLink3URL: http://cds.linear.com/docs/en/packaging/05081663__J_FE28(EB).pdf
footprint LT-FE-28-EPV-EB_N (SOP, 28-Leads, Body 9.8x4.5mm, Pitch 0.65mm, Thermal Pad 4.75x2.74mm, IPC Medium Density)
footprint LT-FE-28-EPV-EB_L (SOP, 28-Leads, Body 9.8x4.5mm, Pitch 0.65mm, Thermal Pad 4.75x2.74mm, IPC High Density)
footprint LT-FE-28-EPV-EB_M (SOP, 28-Leads, Body 9.8x4.5mm, Pitch 0.65mm, Thermal Pad 4.75x2.74mm, IPC Low Density)
pins: 1 ISP (in) "Connection Point for the Positive Terminal of the Current Feedback Resistor (RLED ). Also serves as positive rail for TG pin driver.", 2 ISN (in) "Connection Point for the Negative Terminal of the Current Feedback Resistor (RLED ).", 3 TG (out) "Top Gate Driver Output. An inverted PWM signal drives series PMOS device between VISP and (VISP - 7 V) if V ISP > 7 V. An internal 7 V clamp protects the PMOS gate by limiting VGS. Leave TG unconnected if not used.", 4 GND (power) "Ground. These pins also serve as current sense input for control loop, sensing negative terminal of current sense resistor in the source of the N-channel MOSFET. Solder the exposed pad directly to ground plane.", 5 ISMON (out) "ISP / ISN Current Report Pin. The LED current sensed by ISP / ISN inputs is reported as VISMON = ILED ?RLED ?4. Leave ISMON pin unconnected if not used. When PWM is low, ISMON is driven to ground. Bypass with a 47(See Datasheet)", 6 FB2 (in) "Voltage Loop Feedback 2 Pin. This pin is connected to the internal transconductance amplifier positive input node. The internal transconductance amplifier with output VC regulates FB2 to 1.25 V through the DC/ DC converter. (See Datasheet)", 7 FB1 (in) "Voltage Loop Feedback 1 Pin. FB1 is intended for constant-voltage regulation or for LED protection / open LED detection.", 8 VC "Transconductance Error Amplifier Output Pin. Used to stabilize the control loop with an RC network. This pin is high impedance when PWM is low, a feature that stores the demand current state variable for the next PWM high (See Datasheet)", 9 CTRL (in) "Current Sense Threshold Adjustment Pin.", 10 VREF (out) "Voltage Reference Output Pin. Typically 2.015 V. This pin drives a resistor divider for the CTRL pin, either for analog dimming or for temperature limit / compensation of LED load. It can supply up to 100 uA.", 11 SS (in) "Soft-Start Pin. This pin modulates oscillator frequency and compensation pin voltage (VC ) clamp. The soft-start interval is set with an external capacitor.", 12 RT (in) "Switching Frequency Adjustment Pin. Set the frequency using a resistor to GND (for resistor values, see the Typical Performance curve or Table 2). Do not leave the RT pin open.", 13 TGEN (in) "Top Gate Driver Enable Pin. TGEN signal low causes the TG pin to transition high and turn off a PMOS switch, independent of the PWM input. Unlike PWM, TGEN low does not put the switching regulator in an idle state. TGEN can (See Datasheet)", 14 PWM (in) "PWM Input Signal Pin. A signal low turns off switching, idles the oscillator, disconnects the VC pin from all internal loads, and makes the TG pin high. There is an equivalent 500 k resistor from PWM pin to GND internally. (See Datasheet)", 15 ~{FAULT} (oc) "An open-collector pull-down on F\A\U\L\T\ asserts when any of the following conditions happen: 1. FB1 overvoltage (V FB1 > 1.3 V), 2. INTV CC undervoltage, 3. LED overcurrent (V(ISP-ISN) > 375 mV), or 4. Thermal shutdown. If (See Datasheet)", 16 ~{VMODE} (oc) "An open-collector pull-down on V\M\O\D\E\ asserts if the FB1 input is above 1.19 V (typical), and V(ISP-ISN) is less than 25 mV (typical). To function, the pin requires an external pull-up resistor. V\M\O\D\E\ status is (See Datasheet)", 17 GND (power) "Ground. These pins also serve as current sense input for control loop, sensing negative terminal of current sense resistor in the source of the N-channel MOSFET. Solder the exposed pad directly to ground plane.", 18 SENSE (in) "The current sense input for the control loop. Kelvin connect this pin to the positive terminal of the switch current sense resistor, RSENSE , in the source of the N-channel MOSFET. The negative terminal of the current sense (See Datasheet)", 19 GATE (out) "N-Channel MOSFET Gate Driver Output. Switches between INTVCC and GND. It is driven to GND during shutdown, fault or idle states.", 20 INTVCC (power) "Regulated Supply for Internal Loads, GATE Driver and Top Gate (PMOS) Driver. Supplied from VIN and regulates to 7.7 V (typical). INTVCC must be bypassed with a 4.7 uF capacitor placed close to the pin. Connect INTV CC (See Datasheet)", 21 GND (power) "Ground. These pins also serve as current sense input for control loop, sensing negative terminal of current sense resistor in the source of the N-channel MOSFET. Solder the exposed pad directly to ground plane.", 22 GND (power) "Ground. These pins also serve as current sense input for control loop, sensing negative terminal of current sense resistor in the source of the N-channel MOSFET. Solder the exposed pad directly to ground plane.", 23 VIN (power) "Input Supply Pin. Must be locally bypassed with a 0.22 uF (or larger) capacitor placed close to the IC.", 24 EN/UVLO (in) "Enable and Undervoltage Lockout Pin.", 25 VS (power) "Current Sense Amplifier Power Supply Pin. This pin supply current to the current sense amplifier and can operate from 3 V to 100 V.", 26 CSN (in) "Negative Current Sense Input Terminal. CSN remains functional for voltages up to 100 V.", 27 CSP (in) "Positive Current Sense Input Terminal. The internal sense amplifier sinks current from CSP to regulate it to the same potential as CSN. A resistor (RIN1 ) tied from VIN to CSP sets the output current ICSOUT = VSNS /R IN1 .", 28 CSOUT (out) "Current Sense Amplifier Output. CSOUT pin sources the current that is drawn from CSP. Typically is output to an external resistor to GND.", 29 EP (power) "Ground. These pins also serve as current sense input for control loop, sensing negative terminal of current sense resistor in the source of the N-channel MOSFET. Solder the exposed pad directly to ground plane."